# EAGLE library part AVR25-ATTINY13-COMPLETE (library Atmel_AVR8)
8-bit AVR Microcontroller with 1K Bytes In-System Programmable Flash Source: http://www.atmel.com/dyn/resources/prod_documents/2535S.pdf
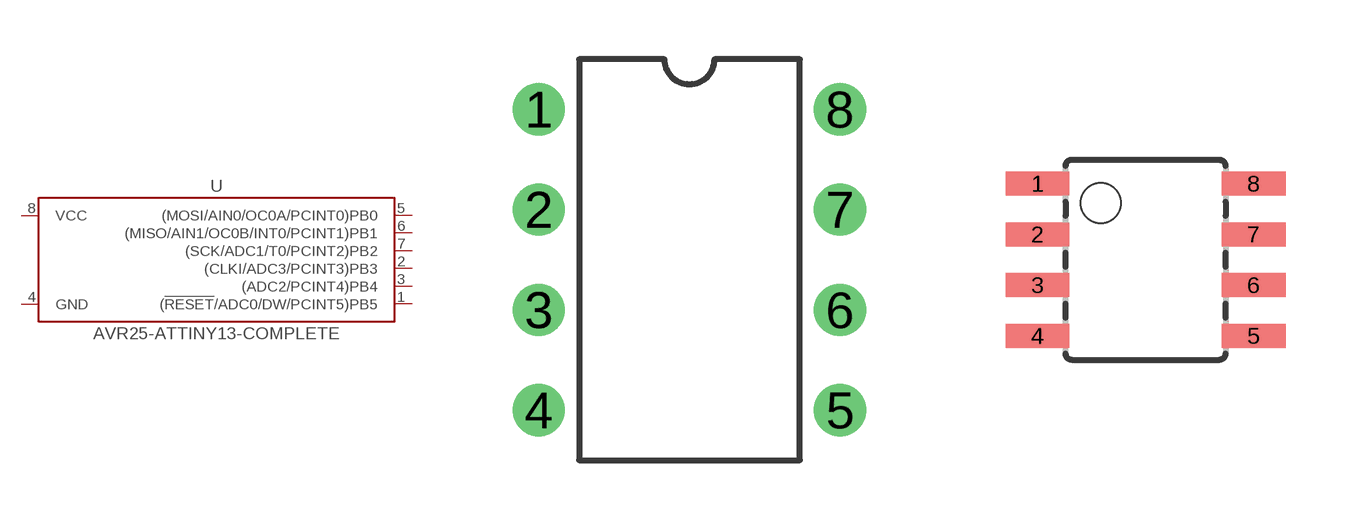
[diagram p1: symbol with the pads of 8P3; footprints 8P3, 8S1]

Designator prefix U

## AVR25-ATTINY13-COMPLETE-20PU (MPN: ATTINY13-20PU; OC_FARNELL: 9171550; OC_NEWARK: 96K6521), AVR25-ATTINY13-COMPLETEV-10PU (MPN: ATTINY13V-10PU; OC_FARNELL: 9171576; OC_NEWARK: 96K6523)  [8P3]
1  (!RESET!/ADC0/DW/PCINT5)PB5
2  (CLKI/ADC3/PCINT3)PB3
3  (ADC2/PCINT4)PB4
4  GND  pwr
5  (MOSI/AIN0/OC0A/PCINT0)PB0
6  (MISO/AIN1/OC0B/INT0/PCINT1)PB1
7  (SCK/ADC1/T0/PCINT2)PB2
8  VCC  pwr

## AVR25-ATTINY13-COMPLETE-20SSU (MPN: ATTINY13-20SSU; OC_FARNELL: 1455133; OC_NEWARK: 58M3771), AVR25-ATTINY13-COMPLETEV-10SSU (MPN: ATTINY13V-10SSU; OC_FARNELL: 1455135; OC_NEWARK: 58M3773)  [8S1]
Pads as for 8P3

## AVR25-ATTINY13-COMPLETE-20SU (MPN: ATTINY13-20SU; OC_FARNELL: 9171568; OC_NEWARK: 96K6522), AVR25-ATTINY13-COMPLETEV-10SU (MPN: ATTINY13V-10SU; OC_FARNELL: 9171584; OC_NEWARK: 96K6524)  [8S2]
Pads as for 8P3

## AVR25-ATTINY13-COMPLETE-20MM0 (MPN: ATTINY13A-MMU; OC_FARNELL: 1715516; OC_NEWARK: 15R0298), AVR25-ATTINY13-COMPLETEV-10MM0 (MPN: ATTINY13A-MMU; OC_FARNELL: 1715516; OC_NEWARK: 15R0298)  [10M1]
1  (!RESET!/ADC0/DW/PCINT5)PB5
2  (CLKI/ADC3/PCINT3)PB3
4  (ADC2/PCINT4)PB4
5  GND  pwr
6  (MOSI/AIN0/OC0A/PCINT0)PB0
7  (MISO/AIN1/OC0B/INT0/PCINT1)PB1
9  (SCK/ADC1/T0/PCINT2)PB2
10  VCC  pwr
PAD  GND  pwr

## AVR25-ATTINY13-COMPLETE-20MU (MPN: ATTINY13A-MU; OC_FARNELL: 1715517; OC_NEWARK: 15R0299), AVR25-ATTINY13-COMPLETEV-10MU (MPN: ATTINY13V-10MU; OC_FARNELL: 1455134; OC_NEWARK: 58M3772)  [20M1]
1  (!RESET!/ADC0/DW/PCINT5)PB5
2  (CLKI/ADC3/PCINT3)PB3
5  (ADC2/PCINT4)PB4
8  GND  pwr
11  (MOSI/AIN0/OC0A/PCINT0)PB0
12  (MISO/AIN1/OC0B/INT0/PCINT1)PB1
14  (SCK/ADC1/T0/PCINT2)PB2
15  VCC  pwr
PAD  GND  pwr

## Footprint 8P3 (pad centres in mm)
8-lead, 0.300" Wide Body, Plastic Dual In-line Package (PDIP)
drill 0.813: 1 -3.81,3.81; 2 -3.81,1.27; 3 -3.81,-1.27; 4 -3.81,-3.81; 5 3.81,-3.81; 6 3.81,-1.27; 7 3.81,1.27; 8 3.81,3.81

## Footprint 8S1 (pad centres in mm)
8-lead (0.150" Wide Body), Plastic Gull Wing Small Outline (JEDEC SOIC) Atmel PCB Mounting Guidelines for Surface Mount Packages, Page 7 <http://www.atmel.com/images/atmel-8826-seeprom-pcb-mounting-guidelines-surface-mount-packages-applicationnote.pdf#page=7>
smd 1.6 x 0.6: 1 -2.7,1.905; 2 -2.7,0.635; 3 -2.7,-0.635; 4 -2.7,-1.905; 5 2.7,-1.905; 6 2.7,-0.635; 7 2.7,0.635; 8 2.7,1.905

## Footprint 8S2 (pad centres in mm)
8-lead, 0.208” Body, Plastic Small Outline Package (EIAJ) Atmel PCB Mounting Guidelines for Surface Mount Packages, Page 6 <http://www.atmel.com/images/atmel-8826-seeprom-pcb-mounting-guidelines-surface-mount-packages-applicationnote.pdf#page=6>
smd 1.8 x 0.6: 1 -3.55,1.905; 2 -3.55,0.635; 3 -3.55,-0.635; 4 -3.55,-1.905; 5 3.55,-1.905; 6 3.55,-0.635; 7 3.55,0.635; 8 3.55,1.905

## Footprint 10M1 (pad centres in mm)
10-pad, 3 x 3 x 1.0 mm Body, Lead Pitch 0.50 mm, 1.64 x 2.60 mm Exposed Pad, Micro Lead Frame Package Atmel PCB Mounting Guidelines for Surface Mount Packages, Page 11 <http://www.atmel.com/images/atmel-8826-seeprom-pcb-mounting-guidelines-surface-mount-packages-applicationnote.pdf#page=11>
smd 0.85 x 0.3: 1 -1.45,1; 2 -1.45,0.5; 3 -1.45,0; 4 -1.45,-0.5; 5 -1.45,-1; 6 1.45,-1; 7 1.45,-0.5; 8 1.45,0; 9 1.45,0.5; 10 1.45,1
smd 1.64 x 2.6: PAD 0,0

## Footprint 20M1 (pad centres in mm)
20-pad, 4 x 4 x 0.8 mm Body, Lead Pitch 0.50 mm, 2.6 mm Exposed Pad, Micro Lead Frame Package (MLF) 0.40 mm Lead Length Atmel PCB Mounting Guidelines for Surface Mount Packages, Page 12 <http://www.atmel.com/images/atmel-8826-seeprom-pcb-mounting-guidelines-surface-mount-packages-applicationnote.pdf#page=12>
smd 0.7 x 0.3: 1 -1.85,1; 2 -1.85,0.5; 3 -1.85,0; 4 -1.85,-0.5; 5 -1.85,-1; 11 1.85,-1; 12 1.85,-0.5; 13 1.85,0; 14 1.85,0.5; 15 1.85,1
smd 0.3 x 0.7: 6 -1,-1.85; 7 -0.5,-1.85; 8 0,-1.85; 9 0.5,-1.85; 10 1,-1.85; 16 1,1.85; 17 0.5,1.85; 18 0,1.85; 19 -0.5,1.85; 20 -1,1.85
smd 2.6 x 2.6: PAD 0,0